# Altium footprint library RF_Adapter.PcbLib: 2 footprints
Each footprint in its own frame and in the unit in brackets; x right, y up, seen from the top. Pads: shape width x height; smd on the part's side, far side on the other; paste and mask are expansions set on the pad; w line width, h text height; cw(c..) or ccw(c..) is an arc to the next point about the centre after c.
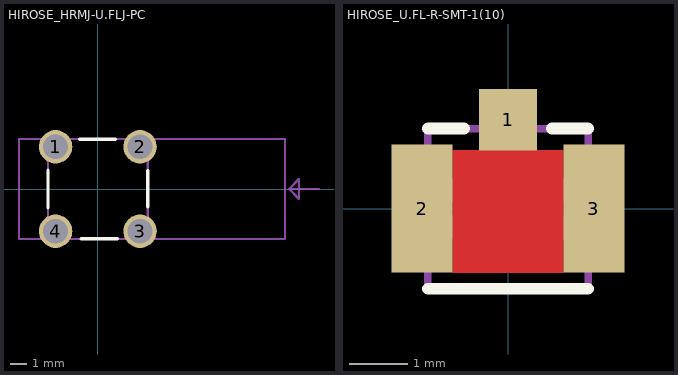
[diagram p0: the footprints below, top view; thin cyan lines are the x and y axes]

## HIROSE_HRMJ-U.FLJ-PC [mm]
height 9.7
pads (4):
  round 2.008 hole 1.5 mask+0.102: 1(-2.54,2.54) 2(2.54,2.54) 3(2.54,-2.54) 4(-2.54,-2.54)
Top Overlay:
  lines w0.203: -3,-1.143 -3,1.141 ; -1.1,3 1.057,3 ; -1,-3 1.159,-3 ; 3,-1.057 3,1.1
Mechanical 1:
  text ".Designator" at -0.771,-0.405 h1.52
Mechanical 15:
  lines w0.127: -3,-3 -3,3 ; 3,-3 3,3 ; 13.3,0 11.5,0 ; 11.5,0 12.1,-0.6 12.1,0.6 11.5,0 ; -4.743,-3 -4.743,3 11.257,3 11.257,-3 -4.743,-3
  text "ENTRY SIDE" at 13.6,-0.4 h1.52
3D body "HRMJ-U.FLJ-PC.stp": height 9.71, standoff -2.99, extent -4.743,-3.146 11.257,3.198

## HIROSE_U.FL-R-SMT-1(10) [mm]
height 1.45
pads (3):
  rect 1x1.05 smd paste-0.559 mask+0.102: 1(0,1.525)
  rect 1.05x2.2 smd paste-1.27 mask+0.102: 2(-1.475,0) 3(1.475,0)
Top Layer:
  pour cut-out: -0.95,1 0.95,1 0.95,-1.1 -0.95,-1.1
Top Overlay:
  lines w0.203: -1.375,-1.376 1.375,-1.376 ; -1.375,1.375 -0.754,1.375 ; 0.754,1.375 1.375,1.375
Top Paste:
  region: -0.4,1.974 0.4,1.974 0.4,1.075 -0.4,1.075
  region: 1.025,1 1.925,1 1.925,-1 1.025,-1
  region: -1.925,1 -1.025,1 -1.025,-1 -1.925,-1
Mechanical 1:
  text ".Designator" at -0.323,-0.256 h1.52
Mechanical 15:
  circle w0.127: c0,-0.001 r1.025
  lines w0.127: -1.375,-1.376 1.375,-1.376 1.375,1.375 -1.375,1.375 -1.375,-1.376
3D body "U.FL-R-SMT-1.stp": height 1.26, standoff 0.01, extent -1.5,-1.575 1.5,1.525